# Altium footprint library NetTie.PcbLib: 19 footprints (part 1 of 2)
Each footprint in its own frame and in the unit in brackets; x right, y up, seen from the top. Pads: shape width x height; smd on the part's side, far side on the other; paste and mask are expansions set on the pad; w line width, h text height; cw(c..) or ccw(c..) is an arc to the next point about the centre after c.
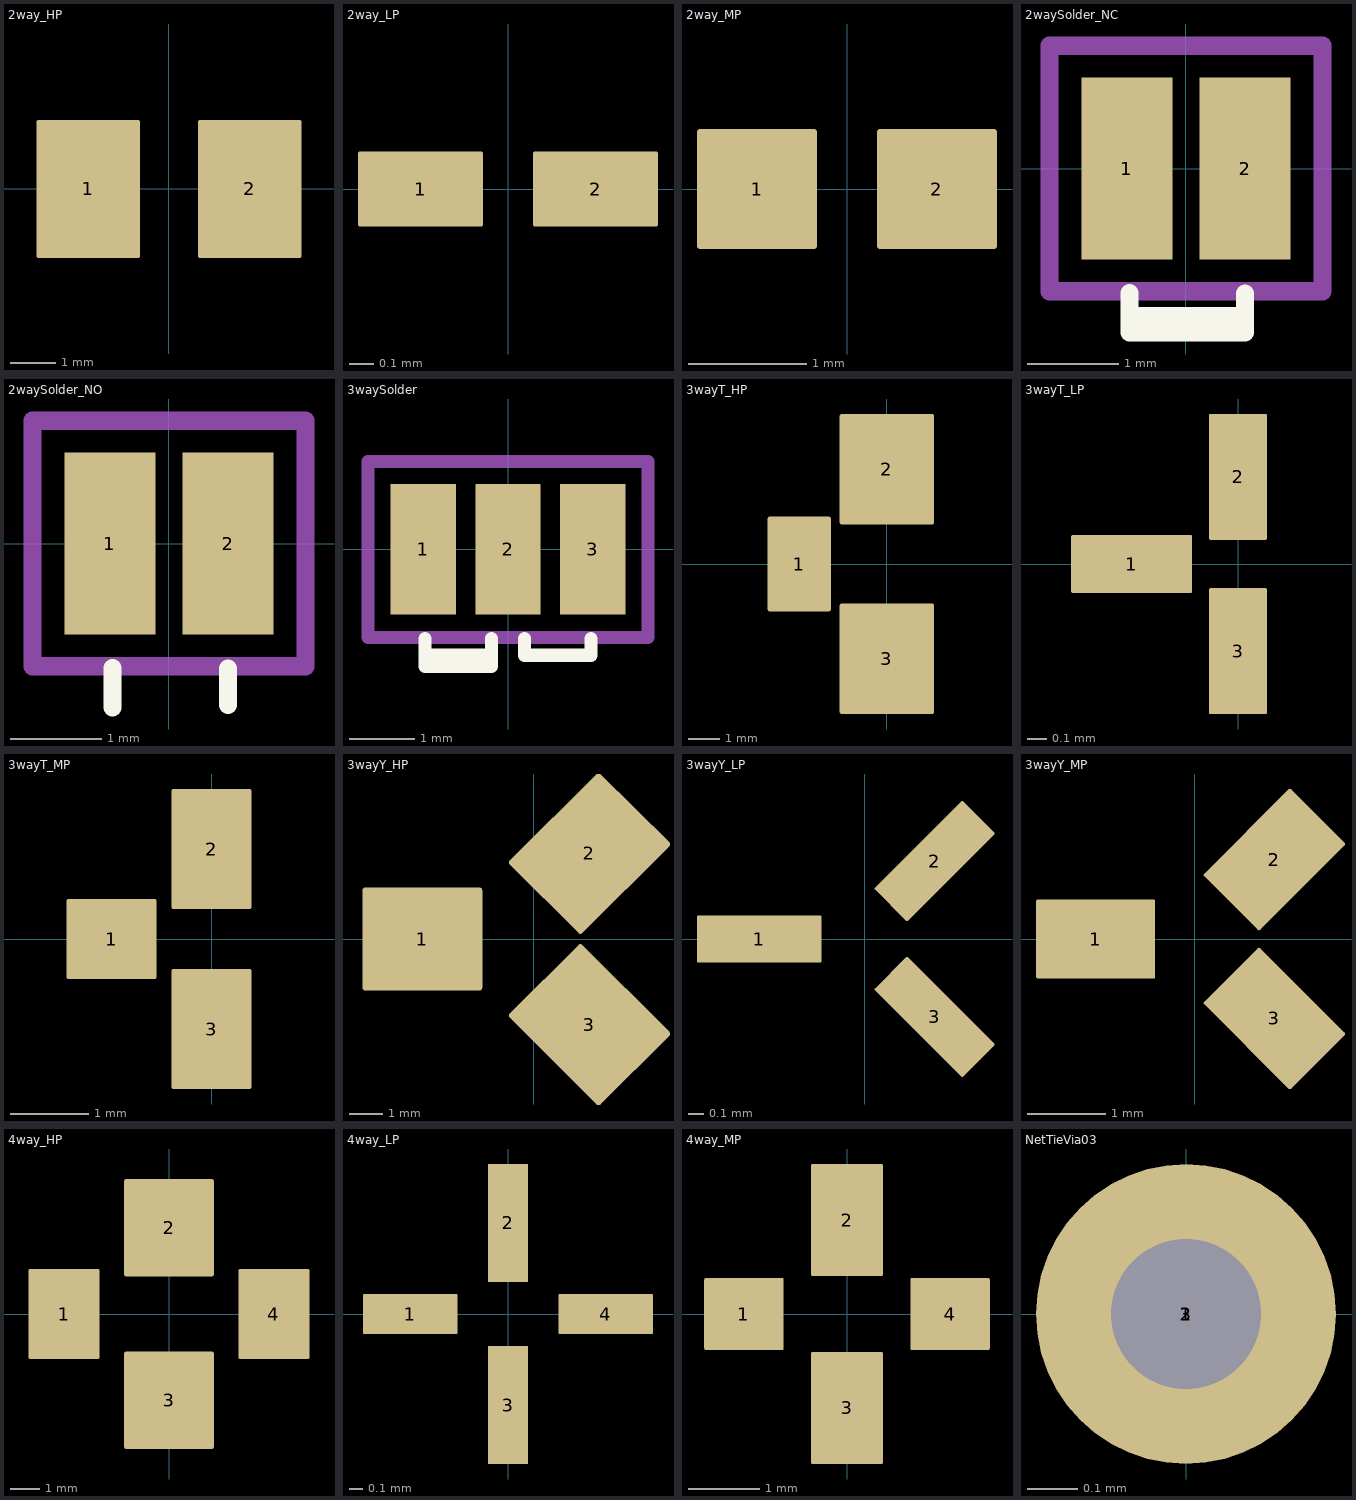
[diagram p0: the footprints below, top view; thin cyan lines are the x and y axes]

## 2way_HP [mil] "2 way high power power net tie junction"
height 1
pads (2):
  rrect5% 90x120 smd paste-100: 1(-70,0) 2(70,0)

## 2way_LP [mil] "2 way low power net tie junction"
height 1
pads (2):
  rrect5% 20x12 smd paste-100: 1(-14,0) 2(14,0)

## 2way_MP [mil] "2 way medium power net tie junction"
height 1
pads (2):
  rrect5% 40x40 smd paste-100: 1(-30,0) 2(30,0)

## 2waySolder_NC [mm] "2 way net solder junction - Normally Connected"
height 0.025
pads (2):
  rect 1x2 smd paste-2.032: 1(-0.65,0) 2(0.65,0)
Top Overlay:
  lines w0.2: -0.62,-1.37 -0.62,-1.624 ; 0.65,-1.8 0.05,-1.8 -0.62,-1.8 -0.62,-1.624 ; 0.65,-1.776 0.65,-1.6 0.65,-1.376 ; 0.65,-1.624 -0.62,-1.624
Top Paste:
  rectangle: -1.067,-0.914 1.067,0.914
Top Solder:
  rectangle: -1.35,-1.2 1.35,1.2
Assembly Text:
  text ".designator" at -1.1,-0.5 h0.9
Assembly:
  lines w0.2: -1.5,-1.35 1.5,-1.35 1.5,1.35 -1.5,1.35 -1.5,-1.35
Courtyard:
  lines w0.2: -1.5,1.35 -1.5,-1.35 1.5,-1.35 1.5,-1.3 1.5,1.35 -1.45,1.35
3D body: height 0.8, standoff -0.2, extent -0.497,0.154 0.498,1.15
3D body: height 0.8, standoff -0.2, extent -0.497,-0.3 0.498,0.696
3D body: height 0.8, standoff -0.2, extent -0.497,-0.65 0.498,0.346
3D body: height 0.8, standoff -0.2, extent -0.495,-1.148 0.5,-0.152

## 2waySolder_NO [mm] "2 way net solder junction - Normally Open"
height 0.025
pads (2):
  rect 1x2 smd paste-1.016: 1(-0.65,0) 2(0.65,0)
Top Overlay:
  lines w0.2: -0.62,-1.8 -0.62,-1.624 -0.62,-1.37 ; 0.65,-1.776 0.65,-1.6 0.65,-1.376
Top Solder:
  rectangle: -1.35,-1.2 1.35,1.2
Assembly Text:
  text ".designator" at -1.1,-0.5 h0.9
Assembly:
  lines w0.2: -1.5,-1.35 -1.5,1.35 1.5,1.35 1.5,-1.35 -1.5,-1.35
Courtyard:
  lines w0.2: -1.5,1.35 -1.5,-1.35 1.5,-1.35 1.5,-1.3 1.5,1.35 -1.45,1.35

## 3waySolder [mm] "3 way net solder junction"
height 0.025
pads (3):
  rect 1x2 smd paste-2.032: 1(-1.3,0) 2(0,0) 3(1.3,0)
Top Overlay:
  lines w0.2: -1.27,-1.37 -1.27,-1.624 ; -0.254,-1.37 -0.254,-1.624 ; 0.254,-1.37 0.254,-1.624 1.27,-1.624 1.27,-1.37 ; -1.27,-1.624 -1.27,-1.8 -0.6,-1.8 -0.254,-1.8 -0.254,-1.624 ; -1.27,-1.624 -0.254,-1.624
Top Paste:
  rectangle: -1.727,-0.914 0.406,0.914
Top Solder:
  rectangle: -2,-1.2 2,1.2
Assembly Text:
  text ".designator" at -1.85,-0.5 h0.9
Assembly:
  lines w0.2: -2.15,-1.35 -2.15,1.35 2.15,1.35 2.15,-1.35 -2.15,-1.35
Courtyard:
  lines w0.2: -2.15,1.3 -2.15,-1.35 2.15,-1.35 2.15,-1.3 2.15,0.2 2.15,1.35 -2.15,1.35
3D body: height 0.8, standoff -0.2, extent -1.147,0.154 -0.152,1.15
3D body: height 0.8, standoff -0.2, extent -1.147,-0.3 -0.152,0.696
3D body: height 0.8, standoff -0.2, extent -1.147,-0.65 -0.152,0.346
3D body: height 0.8, standoff -0.2, extent -1.145,-1.148 -0.15,-0.152

## 3wayT_HP [mil] "3 way high power power net tie T shape junction"
height 1
pads (3):
  rrect5% 80x120 smd paste-100: 1(-111,0)
  rrect5% 120x140 smd paste-100: 2(0,120) 3(0,-120)

## 3wayT_LP [mil] "3 way low power net tie T shape junction"
height 1
pads (3):
  rrect5% 25x12 smd paste-100: 1(-22,0)
  rrect5% 12x26 smd paste-100: 2(0,18) 3(0,-18)

## 3wayT_MP [mil] "3 way medium power net tie T shape junction"
height 1
pads (3):
  rrect5% 45x40 smd paste-100: 1(-50,0)
  rrect5% 40x60 smd paste-100: 2(0,45) 3(0,-45)

## 3wayY_HP [mil] "3 way high power power net tie Y shape junction"
height 1
pads (3):
  rrect5% 140x120 smd paste-100: 1(-130,0)
  rrect5% 150x120 smd rot 45 paste-100: 2(65,100)
  rrect5% 150x120 smd rot 135 paste-100: 3(65,-100)

## 3wayY_LP [mil] "3 way low power net tie Y shape junction"
height 1
pads (3):
  rrect5% 32x12 smd paste-100: 1(-27,0)
  rrect5% 32x12 smd rot 45 paste-100: 2(18,20)
  rrect5% 32x12 smd rot 135 paste-100: 3(18,-20)

## 3wayY_MP [mil] "3 way medium power net tie Y shape junction"
height 1
pads (3):
  rrect5% 60x40 smd paste-100: 1(-50,0)
  rrect5% 62x40 smd rot 45 paste-100: 2(40,40)
  rrect5% 62x40 smd rot 135 paste-100: 3(40,-40)

## 4way_HP [mil] "4 way high power power net tie junction"
height 1
pads (4):
  rrect5% 95x120 smd paste-100: 1(-140,0) 4(140,0)
  rrect5% 120x130 smd paste-100: 2(0,115) 3(0,-115)

## 4way_LP [mil] "4 way low power net tie junction"
height 1
pads (4):
  rrect5% 28x12 smd paste-100: 1(-29,0) 4(29,0)
  rrect5% 12x35 smd paste-100: 2(0,27) 3(0,-27)

## 4way_MP [mil] "4 way medium power net tie junction"
height 1
pads (4):
  rrect5% 44x40 smd paste-100: 1(-57,0) 4(57,0)
  rrect5% 40x62 smd paste-100: 2(0,52) 3(0,-52)

## NetTieVia03 [mm] "Net Tie Via 0.3mm"
height 0.025
pads (3):
  round 0.6 hole 0.3 paste-2.032: 1(0,0) 2(0,0) 3(0,0)